# Altium footprint library LQFP144.PcbLib: 1 footprints
Each footprint in its own frame and in the unit in brackets; x right, y up, seen from the top. Pads: shape width x height; smd on the part's side, far side on the other; paste and mask are expansions set on the pad; w line width, h text height; cw(c..) or ccw(c..) is an arc to the next point about the centre after c.
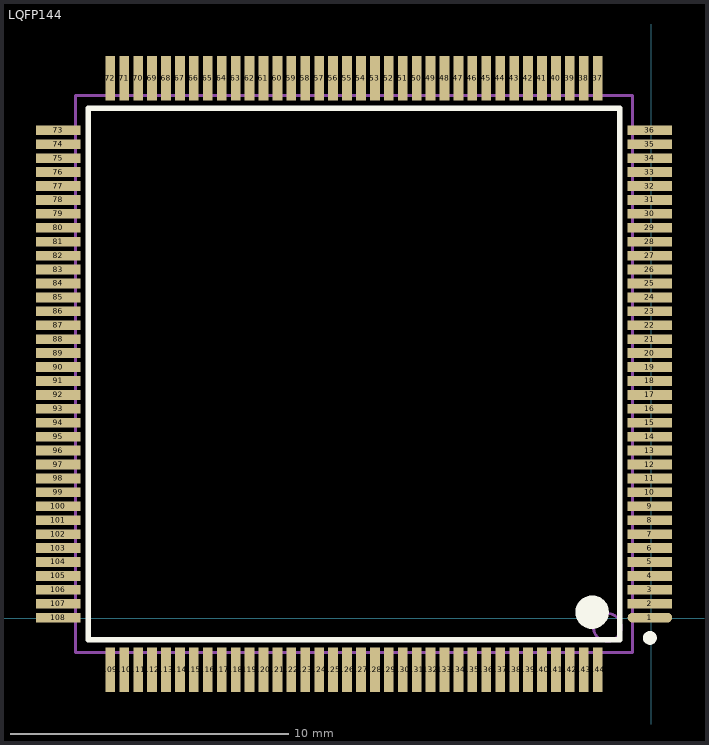
[diagram p0: the footprint, top view; thin cyan lines are the x and y axes]

## LQFP144 [mm] "Thin QFP, 144-Leads, Body 20x20mm, Pitch 0.5mm, ST Recommended"
height 1.6
pads (144):
  oval 1.6x0.35 smd: 1(-0.043,0.013)
  rect 1.6x0.35 smd: 2(-0.043,0.513) 3(-0.043,1.013) 4(-0.043,1.513) 5(-0.043,2.013) 6(-0.043,2.513) 7(-0.043,3.013) 8(-0.043,3.513) 9(-0.043,4.013) 10(-0.043,4.513) 11(-0.043,5.013) 12(-0.043,5.513) 13(-0.043,6.013) 14(-0.043,6.513) 15(-0.043,7.013) 16(-0.043,7.513) 17(-0.043,8.013) 18(-0.043,8.513) 19(-0.043,9.013) 20(-0.043,9.513) 21(-0.043,10.013) 22(-0.043,10.513) 23(-0.043,11.013) 24(-0.043,11.513) 25(-0.043,12.013) 26(-0.043,12.513) 27(-0.043,13.013) 28(-0.043,13.513) 29(-0.043,14.013) 30(-0.043,14.513) 31(-0.043,15.013) 32(-0.043,15.513) 33(-0.043,16.013) 34(-0.043,16.513) 35(-0.043,17.013) 36(-0.043,17.513) 73(-21.293,17.513) 74(-21.293,17.013) 75(-21.293,16.513) 76(-21.293,16.013) 77(-21.293,15.513) 78(-21.293,15.013) 79(-21.293,14.513) 80(-21.293,14.013) 81(-21.293,13.513) 82(-21.293,13.013) 83(-21.293,12.513) 84(-21.293,12.013) 85(-21.293,11.513) 86(-21.293,11.013) 87(-21.293,10.513) 88(-21.293,10.013) 89(-21.293,9.513) 90(-21.293,9.013) 91(-21.293,8.513) 92(-21.293,8.013) 93(-21.293,7.513) 94(-21.293,7.013) 95(-21.293,6.513) 96(-21.293,6.013) 97(-21.293,5.513) 98(-21.293,5.013) 99(-21.293,4.513) 100(-21.293,4.013) 101(-21.293,3.513) 102(-21.293,3.013) 103(-21.293,2.513) 104(-21.293,2.013) 105(-21.293,1.513) 106(-21.293,1.013) 107(-21.293,0.513) 108(-21.293,0.013)
  rect 0.35x1.6 smd: 37(-1.918,19.388) 38(-2.418,19.388) 39(-2.918,19.388) 40(-3.418,19.388) 41(-3.918,19.388) 42(-4.418,19.388) 43(-4.918,19.388) 44(-5.418,19.388) 45(-5.918,19.388) 46(-6.418,19.388) 47(-6.918,19.388) 48(-7.418,19.388) 49(-7.918,19.388) 50(-8.418,19.388) 51(-8.918,19.388) 52(-9.418,19.388) 53(-9.918,19.388) 54(-10.418,19.388) 55(-10.918,19.388) 56(-11.418,19.388) 57(-11.918,19.388) 58(-12.418,19.388) 59(-12.918,19.388) 60(-13.418,19.388) 61(-13.918,19.388) 62(-14.418,19.388) 63(-14.918,19.388) 64(-15.418,19.388) 65(-15.918,19.388) 66(-16.418,19.388) 67(-16.918,19.388) 68(-17.418,19.388) 69(-17.918,19.388) 70(-18.418,19.388) 71(-18.918,19.388) 72(-19.418,19.388) 109(-19.418,-1.862) 110(-18.918,-1.862) 111(-18.418,-1.862) 112(-17.918,-1.862) 113(-17.418,-1.862) 114(-16.918,-1.862) 115(-16.418,-1.862) 116(-15.918,-1.862) 117(-15.418,-1.862) 118(-14.918,-1.862) 119(-14.418,-1.862) 120(-13.918,-1.862) 121(-13.418,-1.862) 122(-12.918,-1.862) 123(-12.418,-1.862) 124(-11.918,-1.862) 125(-11.418,-1.862) 126(-10.918,-1.862) 127(-10.418,-1.862) 128(-9.918,-1.862) 129(-9.418,-1.862) 130(-8.918,-1.862) 131(-8.418,-1.862) 132(-7.918,-1.862) 133(-7.418,-1.862) 134(-6.918,-1.862) 135(-6.418,-1.862) 136(-5.918,-1.862) 137(-5.418,-1.862) 138(-4.918,-1.862) 139(-4.418,-1.862) 140(-3.918,-1.862) 141(-3.418,-1.862) 142(-2.918,-1.862) 143(-2.418,-1.862) 144(-1.918,-1.862)
Top Overlay:
  circle w0.25: c-0.043,-0.712 r0.125
  circle w0.6: c-2.118,0.213 r0.3
  lines w0.2: -20.218,-0.787 -20.218,18.313 -1.118,18.313 -1.118,-0.787 -20.218,-0.787
Mechanical 13:
  circle w0.1: c-1.568,-0.337 r0.5
  lines w0.1: -20.668,-1.237 -20.668,18.763 -0.668,18.763 -0.668,-1.237 -20.668,-1.237
3D body "LQFP144.STEP": height 2, standoff 0.1, extent -21.668,-2.237 0.332,19.763